# Altium schematic symbol library FYLS-0805UBC.SchLib: 1 symbol
Pins are listed as number, name and electrical type; pins without a type are passive.

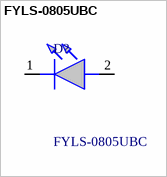
[diagram p0: symbol FYLS-0805UBC]

## FYLS-0805UBC
designator D?
LED; SMD; 0805; blue; 120mcd; 2x1.25x0.8mm; 130; 20mA; d: 468nm; Manufacturer_Name: Foryard; Geometry.Height: 0.9mm; Manufacturer_Part_Number: FYLS-0805UBC; Mouser Part Number: *; Mouser Price/Stock: *; Arrow Part Number: *; Arrow Price/Stock: *; Datasheet Link: https://v4.cecdn.yun300.cn/100001_2003185297/11%20FYLS-0805XXXC-D.pdf
footprint FYLS0805UBC
pins: 1 K, 2 A